# Altium schematic symbol library PT100.SchLib: 1 symbol
Pins are listed as number, name and electrical type; pins without a type are passive.

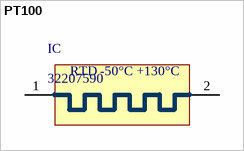
[diagram p0: symbol PT100]

## PT100
designator IC, comment 32207590
32207590 - PT100 - 1206 - 0.3degC - -50/130
footprint PT100
pins: 1, 2
text: RTD; -50°C +130°C